# EAGLE library part MK64F_LQ (library RoboJackets-ICs)
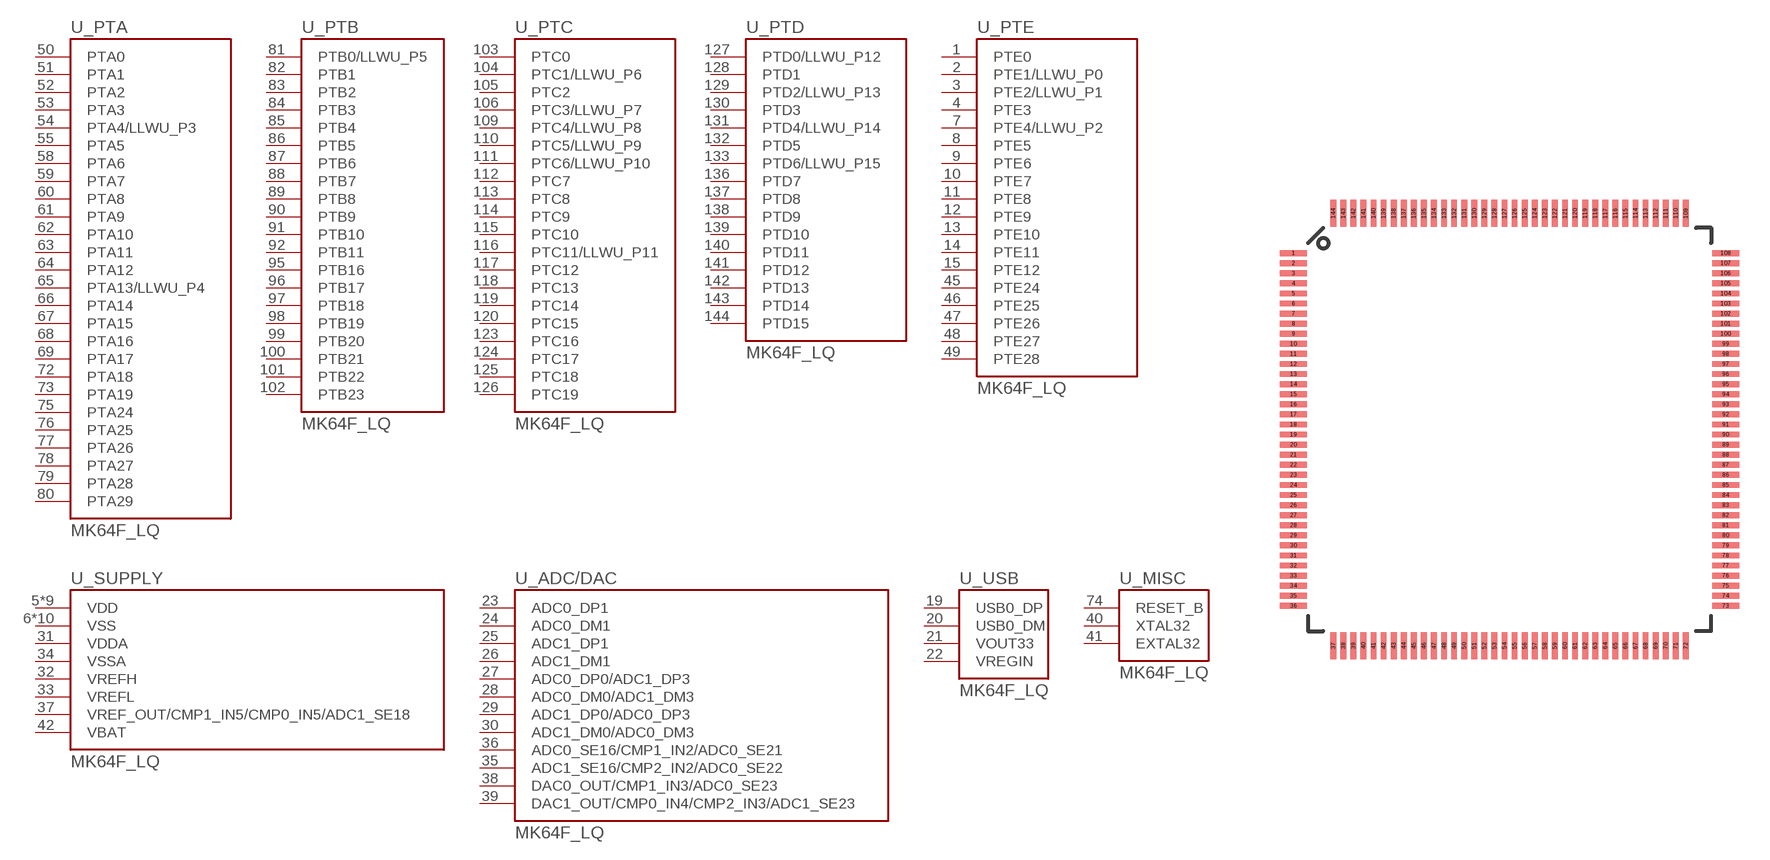
[diagram p16: symbol with the pads of LQFP144_20X20MM; footprint LQFP144_20X20MM]

Designator prefix U; gates _PTA=MK64F_LQ_PTA _PTB=MK64F_LQ_PTB _PTC=MK64F_LQ_PTC _PTD=MK64F_LQ_PTD _PTE=MK64F_LQ_PTE _SUPPLY=MK64F_LQ_SUPPLY _ADC/DAC=MK64F_LQ_ADC/DAC _USB=MK64F_LQ_USB _MISC=MK64F_LQ_MISC

## MK64F_LQ1M0  [LQFP144_20X20MM]
1  _PTE:PTE0
2  _PTE:PTE1/LLWU_P0
3  _PTE:PTE2/LLWU_P1
4  _PTE:PTE3
5  _SUPPLY:VDD
6  _SUPPLY:VSS
7  _PTE:PTE4/LLWU_P2
8  _PTE:PTE5
9  _PTE:PTE6
10  _PTE:PTE7
11  _PTE:PTE8
12  _PTE:PTE9
13  _PTE:PTE10
14  _PTE:PTE11
15  _PTE:PTE12
16  _SUPPLY:VDD
17  _SUPPLY:VSS
18  _SUPPLY:VSS
19  _USB:USB0_DP
20  _USB:USB0_DM
21  _USB:VOUT33
22  _USB:VREGIN
23  _ADC/DAC:ADC0_DP1
24  _ADC/DAC:ADC0_DM1
25  _ADC/DAC:ADC1_DP1
26  _ADC/DAC:ADC1_DM1
27  _ADC/DAC:ADC0_DP0/ADC1_DP3
28  _ADC/DAC:ADC0_DM0/ADC1_DM3
29  _ADC/DAC:ADC1_DP0/ADC0_DP3
30  _ADC/DAC:ADC1_DM0/ADC0_DM3
31  _SUPPLY:VDDA
32  _SUPPLY:VREFH
33  _SUPPLY:VREFL
34  _SUPPLY:VSSA
35  _ADC/DAC:ADC1_SE16/CMP2_IN2/ADC0_SE22
36  _ADC/DAC:ADC0_SE16/CMP1_IN2/ADC0_SE21
37  _SUPPLY:VREF_OUT/CMP1_IN5/CMP0_IN5/ADC1_SE18
38  _ADC/DAC:DAC0_OUT/CMP1_IN3/ADC0_SE23
39  _ADC/DAC:DAC1_OUT/CMP0_IN4/CMP2_IN3/ADC1_SE23
40  _MISC:XTAL32
41  _MISC:EXTAL32
42  _SUPPLY:VBAT
43  _SUPPLY:VDD
44  _SUPPLY:VSS
45  _PTE:PTE24
46  _PTE:PTE25
47  _PTE:PTE26
48  _PTE:PTE27
49  _PTE:PTE28
50  _PTA:PTA0
51  _PTA:PTA1
52  _PTA:PTA2
53  _PTA:PTA3
54  _PTA:PTA4/LLWU_P3
55  _PTA:PTA5
56  _SUPPLY:VDD
57  _SUPPLY:VSS
58  _PTA:PTA6
59  _PTA:PTA7
60  _PTA:PTA8
61  _PTA:PTA9
62  _PTA:PTA10
63  _PTA:PTA11
64  _PTA:PTA12
65  _PTA:PTA13/LLWU_P4
66  _PTA:PTA14
67  _PTA:PTA15
68  _PTA:PTA16
69  _PTA:PTA17
70  _SUPPLY:VDD
71  _SUPPLY:VSS
72  _PTA:PTA18
73  _PTA:PTA19
74  _MISC:RESET_B
75  _PTA:PTA24
76  _PTA:PTA25
77  _PTA:PTA26
78  _PTA:PTA27
79  _PTA:PTA28
80  _PTA:PTA29
81  _PTB:PTB0/LLWU_P5
82  _PTB:PTB1
83  _PTB:PTB2
84  _PTB:PTB3
85  _PTB:PTB4
86  _PTB:PTB5
87  _PTB:PTB6
88  _PTB:PTB7
89  _PTB:PTB8
90  _PTB:PTB9
91  _PTB:PTB10
92  _PTB:PTB11
93  _SUPPLY:VSS
94  _SUPPLY:VDD
95  _PTB:PTB16
96  _PTB:PTB17
97  _PTB:PTB18
98  _PTB:PTB19
99  _PTB:PTB20
100  _PTB:PTB21
101  _PTB:PTB22
102  _PTB:PTB23
103  _PTC:PTC0
104  _PTC:PTC1/LLWU_P6
105  _PTC:PTC2
106  _PTC:PTC3/LLWU_P7
107  _SUPPLY:VSS
108  _SUPPLY:VDD
109  _PTC:PTC4/LLWU_P8
110  _PTC:PTC5/LLWU_P9
111  _PTC:PTC6/LLWU_P10
112  _PTC:PTC7
113  _PTC:PTC8
114  _PTC:PTC9
115  _PTC:PTC10
116  _PTC:PTC11/LLWU_P11
117  _PTC:PTC12
118  _PTC:PTC13
119  _PTC:PTC14
120  _PTC:PTC15
121  _SUPPLY:VSS
122  _SUPPLY:VDD
123  _PTC:PTC16
124  _PTC:PTC17
125  _PTC:PTC18
126  _PTC:PTC19
127  _PTD:PTD0/LLWU_P12
128  _PTD:PTD1
129  _PTD:PTD2/LLWU_P13
130  _PTD:PTD3
131  _PTD:PTD4/LLWU_P14
132  _PTD:PTD5
133  _PTD:PTD6/LLWU_P15
134  _SUPPLY:VSS
135  _SUPPLY:VDD
136  _PTD:PTD7
137  _PTD:PTD8
138  _PTD:PTD9
139  _PTD:PTD10
140  _PTD:PTD11
141  _PTD:PTD12
142  _PTD:PTD13
143  _PTD:PTD14
144  _PTD:PTD15

## MK64F_LQ512  [LQFP144_20X20MM]
Pads as for LQFP144_20X20MM

## Footprint LQFP144_20X20MM (pad centres in mm)
smd 1.35 x 0.29: 1 -10.725,8.75; 2 -10.725,8.25; 3 -10.725,7.75; 4 -10.725,7.25; 5 -10.725,6.75; 6 -10.725,6.25; 7 -10.725,5.75; 8 -10.725,5.25; 9 -10.725,4.75; 10 -10.725,4.25; 11 -10.725,3.75; 12 -10.725,3.25; 13 -10.725,2.75; 14 -10.725,2.25; 15 -10.725,1.75; 16 -10.725,1.25; 17 -10.725,0.75; 18 -10.725,0.25; 19 -10.725,-0.25; 20 -10.725,-0.75; 21 -10.725,-1.25; 22 -10.725,-1.75; 23 -10.725,-2.25; 24 -10.725,-2.75; 25 -10.725,-3.25; 26 -10.725,-3.75; 27 -10.725,-4.25; 28 -10.725,-4.75; 29 -10.725,-5.25; 30 -10.725,-5.75; 31 -10.725,-6.25; 32 -10.725,-6.75; 33 -10.725,-7.25; 34 -10.725,-7.75; 35 -10.725,-8.25; 36 -10.725,-8.75; 73 10.725,-8.75; 74 10.725,-8.25; 75 10.725,-7.75; 76 10.725,-7.25; 77 10.725,-6.75; 78 10.725,-6.25; 79 10.725,-5.75; 80 10.725,-5.25; 81 10.725,-4.75; 82 10.725,-4.25; 83 10.725,-3.75; 84 10.725,-3.25; 85 10.725,-2.75; 86 10.725,-2.25; 87 10.725,-1.75; 88 10.725,-1.25; 89 10.725,-0.75; 90 10.725,-0.25; 91 10.725,0.25; 92 10.725,0.75; 93 10.725,1.25; 94 10.725,1.75; 95 10.725,2.25; 96 10.725,2.75; 97 10.725,3.25; 98 10.725,3.75; 99 10.725,4.25; 100 10.725,4.75; 101 10.725,5.25; 102 10.725,5.75; 103 10.725,6.25; 104 10.725,6.75; 105 10.725,7.25; 106 10.725,7.75; 107 10.725,8.25; 108 10.725,8.75
smd 0.29 x 1.35: 37 -8.75,-10.725; 38 -8.25,-10.725; 39 -7.75,-10.725; 40 -7.25,-10.725; 41 -6.75,-10.725; 42 -6.25,-10.725; 43 -5.75,-10.725; 44 -5.25,-10.725; 45 -4.75,-10.725; 46 -4.25,-10.725; 47 -3.75,-10.725; 48 -3.25,-10.725; 49 -2.75,-10.725; 50 -2.25,-10.725; 51 -1.75,-10.725; 52 -1.25,-10.725; 53 -0.75,-10.725; 54 -0.25,-10.725; 55 0.25,-10.725; 56 0.75,-10.725; 57 1.25,-10.725; 58 1.75,-10.725; 59 2.25,-10.725; 60 2.75,-10.725; 61 3.25,-10.725; 62 3.75,-10.725; 63 4.25,-10.725; 64 4.75,-10.725; 65 5.25,-10.725; 66 5.75,-10.725; 67 6.25,-10.725; 68 6.75,-10.725; 69 7.25,-10.725; 70 7.75,-10.725; 71 8.25,-10.725; 72 8.75,-10.725; 109 8.75,10.725; 110 8.25,10.725; 111 7.75,10.725; 112 7.25,10.725; 113 6.75,10.725; 114 6.25,10.725; 115 5.75,10.725; 116 5.25,10.725; 117 4.75,10.725; 118 4.25,10.725; 119 3.75,10.725; 120 3.25,10.725; 121 2.75,10.725; 122 2.25,10.725; 123 1.75,10.725; 124 1.25,10.725; 125 0.75,10.725; 126 0.25,10.725; 127 -0.25,10.725; 128 -0.75,10.725; 129 -1.25,10.725; 130 -1.75,10.725; 131 -2.25,10.725; 132 -2.75,10.725; 133 -3.25,10.725; 134 -3.75,10.725; 135 -4.25,10.725; 136 -4.75,10.725; 137 -5.25,10.725; 138 -5.75,10.725; 139 -6.25,10.725; 140 -6.75,10.725; 141 -7.25,10.725; 142 -7.75,10.725; 143 -8.25,10.725; 144 -8.75,10.725